# Altium schematic symbol library Ind_TDK_VLF4012AT-2R2M1R5_eec.SchLib: 1 symbol
Pins are listed as number, name and electrical type; pins without a type are passive.

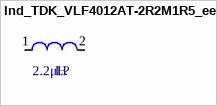
[diagram p0: symbol Ind_TDK_VLF4012AT-2R2M1R5_eec]

## Ind_TDK_VLF4012AT-2R2M1R5_eec
designator L?  Inductance: 2.2μH
IND FIXED IND 2.2UH 1.5A 87 MOHM SMD; Part Number: VLF4012AT-2R2M1R5; Manufacturer: TDK; Value: 2.2μH; helpURL: https://upverter.com/upn/revision/afa9bf34f4ee1392/; ComponentLink2Description: Datasheet; Temperature: -40°C to +105°C; Package: AXIAL; Supplier 2: Mouser; Price: 0.555911609149; Supplier 1: Digi-Key; ComponentLink1URL: https://upverter.com/upn/revision/afa9bf34f4ee1392/; Supplier Part Number 2: 810-VLF4012AT2R2M1R5; Supplier Part Number 1: 445-3233-1-ND; ComponentLink1Description: Upverter; ComponentLink2URL: https://upverter.com/datasheet/5a7331b8b56673d5286877114f5a064424c41dcc.pdf; RoHS: TRUE; Mouser Part Number: 810-VLF4012AT2R2M1R5; Temperature Range High: +105°C; Digikey Description: IND FIXED IND 2.2UH 1.5A 87 MOHM SMD; Digikey Part Number: 445-3233-1-ND; Lead Free: yes; Temperature Range Low: -40°C
footprint TDK_VLF4012AT-2R2M1R5_0
pins: 1, 2